# EAGLE library part 2X5P (library Pinheader)
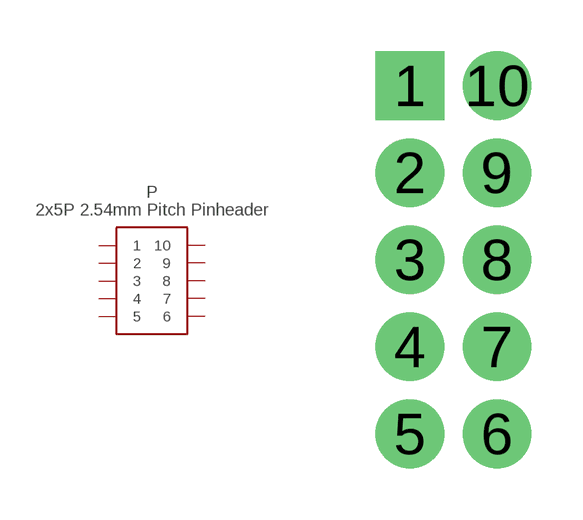
[diagram p0: symbol with the pads of 2X5P; footprint 2X5P]

Designator prefix P

## 2X5P  [2X5P]
1  1
2  2
3  3
4  4
5  5
6  6
7  7
8  8
9  9
10  10

## Footprint 2X5P (pad centres in mm)
drill 1 pad 2 square: 1 -1.27,5.08
drill 1 pad 2: 2 -1.27,2.54; 3 -1.27,0; 4 -1.27,-2.54; 5 -1.27,-5.08; 6 1.27,-5.08; 7 1.27,-2.54; 8 1.27,0; 9 1.27,2.54; 10 1.27,5.08